# Altium footprint library swarm_crawler_pcb.PcbLib: 39 footprints (part 2 of 3)
Each footprint in its own frame and in the unit in brackets; x right, y up, seen from the top. Pads: shape width x height; smd on the part's side, far side on the other; paste and mask are expansions set on the pad; w line width, h text height; cw(c..) or ccw(c..) is an arc to the next point about the centre after c.
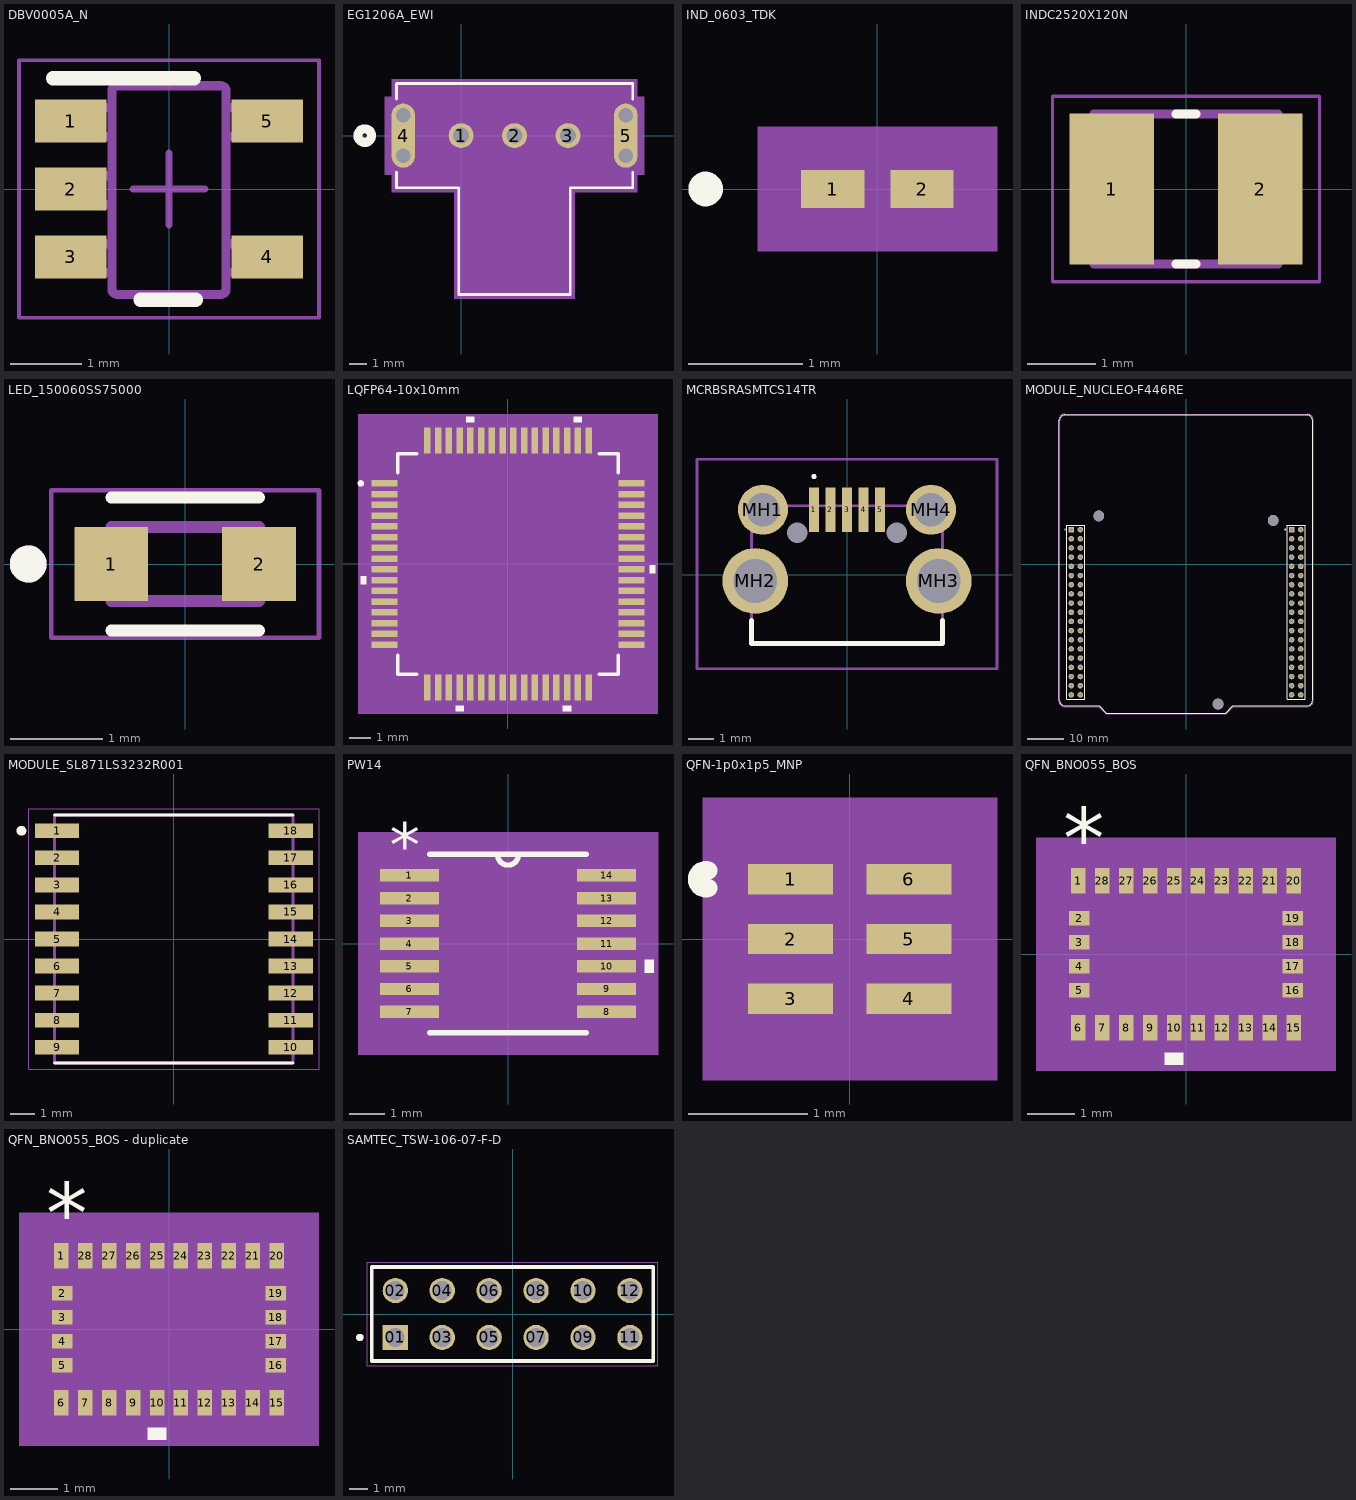
[diagram p1: the footprints below, top view; thin cyan lines are the x and y axes]

## DBV0005A_N [mm]
pads (5):
  rect 1x0.6 smd paste+0 mask+0.051: 1(-1.375,0.95) 2(-1.375,0) 3(-1.375,-0.95) 4(1.375,-0.95) 5(1.375,0.95)
Top Overlay:
  lines w0.2: -1.625,1.55 0.35,1.55 ; -0.4,-1.55 0.375,-1.55
Mechanical 13:
  lines w0.127: -0.801,1.371 cw(c-0.725,1.37) -0.725,1.446 ; -0.801,1.37 -0.801,-1.399 -0.801,-1.4 ccw(c-0.725,-1.399) -0.725,-1.475 ; -0.801,1.37 -0.801,1.371 ; -0.725,-1.475 -0.725,-1.475 ; -0.725,-1.475 0.723,-1.475 0.724,-1.475 ccw(c0.723,-1.399) 0.799,-1.4 0.799,-1.399 0.799,1.37 ; -0.725,1.446 0.723,1.446 0.724,1.446 cw(c0.723,1.37) 0.799,1.371 ; -0.725,1.446 -0.725,1.446 ; 0.799,1.37 0.799,1.371 ; -1.423,-1.167 -1.199,-1.167 -1.105,-1.167 -1.088,-1.167 -0.835,-1.167 -0.801,-1.167 -0.801,-0.767 -0.835,-0.767 -1.088,-0.767 -1.105,-0.767 -1.199,-0.767 -1.423,-0.767 -1.423,-1.167 ; -1.423,-0.215 -1.199,-0.215 -1.105,-0.215 -1.088,-0.215 -0.835,-0.215 -0.801,-0.215 -0.801,0.186 -0.835,0.186 -1.088,0.186 -1.105,0.186 -1.199,0.186 -1.423,0.186 -1.423,-0.215 ; -1.423,0.738 -1.199,0.738 -1.105,0.738 -1.088,0.738 -0.835,0.738 -0.801,0.738 -0.801,1.138 -0.835,1.138 -1.088,1.138 -1.105,1.138 -1.199,1.138 -1.423,1.138 -1.423,0.738 ; 0.799,-1.167 0.799,-0.767 0.834,-0.767 1.087,-0.767 1.103,-0.767 1.198,-0.767 1.422,-0.767 1.422,-1.167 1.198,-1.167 1.103,-1.167 1.087,-1.167 0.834,-1.167 0.799,-1.167 ; 0.799,0.738 0.799,1.138 0.834,1.138 1.087,1.138 1.103,1.138 1.198,1.138 1.422,1.138 1.422,0.738 1.198,0.738 1.103,0.738 1.087,0.738 0.834,0.738 0.799,0.738
  text ".Designator" at -0.885,0.95 h1.27
Mechanical 15:
  lines w0.05: -2.1,-1.8 2.1,-1.8 2.1,1.8 -2.1,1.8 -2.1,-1.8
  lines w0.1: -0.5,0 0.5,0 ; 0,-0.5 0,0.5
3D body: height 0.25, standoff 0, extent 0,0 0.254,0.254

## EG1206A_EWI [mil]
pads (9):
  round 55 hole 35 mask+0: 1(0,0) 2(118.11,0) 3(236.22,0)
  oval 52x142 smd: 4(-127.95,0) 5(364.17,0)
  round 32 hole 32 unplated: S_1_H1(-127.95,45) S_1_H2(-127.95,-45) S_2_H1(364.17,45) S_2_H2(364.17,-45)
Top Overlay:
  circle w20: c-212.89,0 r15
  lines w6: -142.89,-81.13 -142.89,-115 -5.1,-115 -5.1,-351 241.32,-351 241.32,-115 379.11,-115 379.11,-81.13 ; -142.89,81.13 -142.89,115 379.11,115 379.11,81.13
Bottom Overlay:
  circle w20: c-212.89,0 r15
Mechanical 5:
  region: -168.95,-86 -152.89,-86 -152.89,-125 -15.1,-125 -15.1,-361 251.32,-361 251.32,-125 389.11,-125 389.11,-86 405.17,-86 405.17,86 389.11,86 389.11,125 -152.89,125 -152.89,86 -168.95,86
Mechanical 13:
  circle w20: c0,75 r15
  lines w1: -0.1,-110 -0.1,-346 137.9,-346 137.9,-110 ; -137.89,-110 -137.89,110 374.11,110 374.11,-110 -137.89,-110
Mechanical 15:
  region: 246.32,-356 246.32,-120 384.11,-120 384.11,-81 400.17,-81 400.17,81 384.11,81 384.11,120 -147.89,120 -147.89,81 -163.95,81 -163.95,-81 -147.89,-81 -147.89,-120 -10.1,-120 -10.1,-356
  lines w6: -163.95,-81 -147.89,-81 -147.89,-120 -10.1,-120 -10.1,-356 246.32,-356 246.32,-120 384.11,-120 384.11,-81 400.17,-81 400.17,81 384.11,81 384.11,120 -147.89,120 -147.89,81 -163.95,81 -163.95,-81
Multi-Layer:
  lines w32: -127.95,-45 -127.95,45 ; 364.17,-45 364.17,45
3D body: height 10, standoff 0, extent 0,0 10,10

## IND_0603_TDK [mm]
pads (2):
  rect 0.556x0.33 smd paste+0 mask+0: 1(-0.393,0) 2(0.393,0)
Top Overlay:
  circle w0.152: c-1.509,0 r0.076
Mechanical 5:
  region: 1.052,-0.546 -1.052,-0.546 -1.052,0.546 1.052,0.546
Mechanical 13:
  circle w0: c-0.266,0 r0.076
  lines w0.025: -0.315,-0.165 -0.315,0.165 ; -0.315,-0.165 0.315,-0.165 ; -0.315,-0.165 -0.115,-0.165 -0.115,0.165 -0.315,0.165 ; -0.315,-0.165 -0.315,0.165 ; -0.315,0.165 0.315,0.165 ; 0.315,-0.165 0.315,0.165 ; 0.315,-0.165 0.315,0.165 ; 0.315,-0.165 0.115,-0.165 0.115,0.165 0.315,0.165
Mechanical 15:
  region: 0.925,-0.419 -0.925,-0.419 -0.925,0.419 0.925,0.419
  lines w0.152: -0.925,-0.419 0.925,-0.419 0.925,0.419 -0.925,0.419 -0.925,-0.419
3D body "IND_0603_TDK.step": height 0.33, standoff 0, extent -0.315,-0.165 0.315,0.165

## INDC2520X120N [mm]
pads (2):
  rect 1.24x2.22 smd: 1(-1.09,0) 2(1.09,0)
Top Overlay:
  lines w0.127: -0.15,-1.1 0.15,-1.1 ; -0.15,1.1 0.15,1.1
Mechanical 13:
  lines w0.127: -1.35,-1.1 1.35,-1.1 1.35,1.1 -1.35,1.1 -1.35,-1.1
Mechanical 15:
  lines w0.05: -1.958,-1.358 1.958,-1.358 1.958,1.358 -1.958,1.358 -1.958,-1.358

## LED_150060SS75000 [mm]
pads (2):
  rect 0.8x0.8 smd: 1(-0.8,0) 2(0.8,0)
Top Overlay:
  circle w0.2: c-1.7,0 r0.1
  lines w0.127: -0.8,-0.72 0.8,-0.72 ; -0.8,0.72 0.8,0.72
Mechanical 13:
  circle w0.2: c-1.7,0 r0.1
  lines w0.127: -0.8,-0.4 -0.8,0.4 0.8,0.4 0.8,-0.4 -0.8,-0.4
Mechanical 15:
  lines w0.05: -1.45,-0.8 1.45,-0.8 1.45,0.8 -1.45,0.8 -1.45,-0.8

## LQFP64-10x10mm [mil]
pads (64):
  rect 47x12 smd paste+0 mask+0: 1(-226.38,147.64) 2(-226.38,127.95) 3(-226.38,108.27) 4(-226.38,88.58) 5(-226.38,68.9) 6(-226.38,49.21) 7(-226.38,29.53) 8(-226.38,9.84) 9(-226.38,-9.84) 10(-226.38,-29.53) 11(-226.38,-49.21) 12(-226.38,-68.9) 13(-226.38,-88.58) 14(-226.38,-108.27) 15(-226.38,-127.95) 16(-226.38,-147.64) 33(226.38,-147.64) 34(226.38,-127.95) 35(226.38,-108.27) 36(226.38,-88.58) 37(226.38,-68.9) 38(226.38,-49.21) 39(226.38,-29.53) 40(226.38,-9.84) 41(226.38,9.84) 42(226.38,29.53) 43(226.38,49.21) 44(226.38,68.9) 45(226.38,88.58) 46(226.38,108.27) 47(226.38,127.95) 48(226.38,147.64)
  rect 12x47 smd paste+0 mask+0: 17(-147.64,-226.38) 18(-127.95,-226.38) 19(-108.27,-226.38) 20(-88.58,-226.38) 21(-68.9,-226.38) 22(-49.21,-226.38) 23(-29.53,-226.38) 24(-9.84,-226.38) 25(9.84,-226.38) 26(29.53,-226.38) 27(49.21,-226.38) 28(68.9,-226.38) 29(88.58,-226.38) 30(108.27,-226.38) 31(127.95,-226.38) 32(147.64,-226.38) 49(147.64,226.38) 50(127.95,226.38) 51(108.27,226.38) 52(88.58,226.38) 53(68.9,226.38) 54(49.21,226.38) 55(29.53,226.38) 56(9.84,226.38) 57(-9.84,226.38) 58(-29.53,226.38) 59(-49.21,226.38) 60(-68.9,226.38) 61(-88.58,226.38) 62(-108.27,226.38) 63(-127.95,226.38) 64(-147.64,226.38)
Top Overlay:
  circle w6: c-269.72,147.64 r3
  region: -259.88,-22.03 -269.88,-22.03 -269.88,-37.03 -259.88,-37.03
  region: -81.08,-259.88 -96.08,-259.88 -96.08,-269.88 -81.08,-269.88
  region: 115.77,-259.88 100.77,-259.88 100.77,-269.88 115.77,-269.88
  region: 259.88,-2.34 269.88,-2.34 269.88,-17.34 259.88,-17.34
  region: 135.45,259.88 120.45,259.88 120.45,269.88 135.45,269.88
  region: -61.4,259.88 -76.4,259.88 -76.4,269.88 -61.4,269.88
  lines w6: -202,-166.71 -202,-202 -166.71,-202 ; -202,166.71 -202,202 -166.71,202 ; 166.71,-202 202,-202 202,-166.71 ; 166.71,202 202,202 202,166.71
Mechanical 5:
  region: 274.88,-274.88 -274.88,-274.88 -274.88,274.88 274.88,274.88
Mechanical 13:
  circle w0: c-177.88,147.64 r3
  lines w1: -197,147 -147,197 ; -197,-197 197,-197 197,197 -197,197 -197,-197
Mechanical 15:
  region: -167.64,-207 -207,-207 -207,-167.64 -269.88,-167.64 -269.88,167.64 -207,167.64 -207,207 -167.64,207 -167.64,269.88 167.64,269.88 167.64,207 207,207 207,167.64 269.88,167.64 269.88,-167.64 207,-167.64 207,-207 167.64,-207 167.64,-269.88 -167.64,-269.88
  lines w6: -269.88,-167.64 -207,-167.64 -207,-207 -167.64,-207 -167.64,-269.88 167.64,-269.88 167.64,-207 207,-207 207,-167.64 269.88,-167.64 269.88,167.64 207,167.64 207,207 167.64,207 167.64,269.88 -167.64,269.88 -167.64,207 -207,207 -207,167.64 -269.88,167.64 -269.88,-167.64
3D body "LQFP64-10x10mm.step": height 63.11, standoff 0, extent -236.1,-236.1 236.1,236.1

## MCRBSRASMTCS14TR [mm]
pads (11):
  rect 0.4x1.75 smd: 1(-1.3,2.55) 2(-0.65,2.55) 3(0,2.55) 4(0.65,2.55) 5(1.3,2.55)
  round 1.965 hole 1.31: MH1(-3.3,2.55) MH4(3.3,2.55)
  round 2.58 hole 1.72: MH2(-3.6,-0.25) MH3(3.6,-0.25)
  round 0.4 hole 0.8 unplated: MH5(-1.95,1.65) MH6(1.95,1.65)
Top Overlay:
  lines w0.1: -1.3,3.8 cw(c-1.3,3.85) -1.3,3.9 cw(c-1.3,3.85) -1.3,3.8
  lines w0.2: -3.75,-1.8 -3.75,-2.7 3.75,-2.7 3.75,-1.8
Mechanical 15:
  lines w0.1: -3.75,-2.7 3.75,-2.7 3.75,2.7 -3.75,2.7 -3.75,-2.7
Mechanical 20:
  lines w0.1: -5.89,-3.7 5.89,-3.7 5.89,4.533 -5.89,4.533 -5.89,-3.7
3D body "MCR-B-S-RA-SMT-CS14-T_R.stp": height 5.8, standoff -4.65, extent -10,-3.376 10,3.376

## MODULE_NUCLEO-F446RE [mm]
pads (79):
  rect 1.53x1.53 hole 1.02: CN7_1(-31.75,9.51) CN10_1(29.21,9.51)
  round 1.53 hole 1.02: CN7_2(-29.21,9.51) CN7_3(-31.75,6.97) CN7_4(-29.21,6.97) CN7_5(-31.75,4.43) CN7_6(-29.21,4.43) CN7_7(-31.75,1.89) CN7_8(-29.21,1.89) CN7_9(-31.75,-0.65) CN7_10(-29.21,-0.65) CN7_11(-31.75,-3.19) CN7_12(-29.21,-3.19) CN7_13(-31.75,-5.73) CN7_14(-29.21,-5.73) CN7_15(-31.75,-8.27) CN7_16(-29.21,-8.27) CN7_17(-31.75,-10.81) CN7_18(-29.21,-10.81) CN7_19(-31.75,-13.35) CN7_20(-29.21,-13.35) CN7_21(-31.75,-15.89) CN7_22(-29.21,-15.89) CN7_23(-31.75,-18.43) CN7_24(-29.21,-18.43) CN7_25(-31.75,-20.97) CN7_26(-29.21,-20.97) CN7_27(-31.75,-23.51) CN7_28(-29.21,-23.51) CN7_29(-31.75,-26.05) CN7_30(-29.21,-26.05) CN7_31(-31.75,-28.59) CN7_32(-29.21,-28.59) CN7_33(-31.75,-31.13) CN7_34(-29.21,-31.13) CN7_35(-31.75,-33.67) CN7_36(-29.21,-33.67) CN7_37(-31.75,-36.21) CN7_38(-29.21,-36.21) CN10_2(31.75,9.51) CN10_3(29.21,6.97) CN10_4(31.75,6.97) CN10_5(29.21,4.43) CN10_6(31.75,4.43) CN10_7(29.21,1.89) CN10_8(31.75,1.89) CN10_9(29.21,-0.65) CN10_10(31.75,-0.65) CN10_11(29.21,-3.19) CN10_12(31.75,-3.19) CN10_13(29.21,-5.73) CN10_14(31.75,-5.73) CN10_15(29.21,-8.27) CN10_16(31.75,-8.27) CN10_17(29.21,-10.81) CN10_18(31.75,-10.81) CN10_19(29.21,-13.35) CN10_20(31.75,-13.35) CN10_21(29.21,-15.89) CN10_22(31.75,-15.89) CN10_23(29.21,-18.43) CN10_24(31.75,-18.43) CN10_25(29.21,-20.97) CN10_26(31.75,-20.97) CN10_27(29.21,-23.51) CN10_28(31.75,-23.51) CN10_29(29.21,-26.05) CN10_30(31.75,-26.05) CN10_31(29.21,-28.59) CN10_32(31.75,-28.59) CN10_33(29.21,-31.13) CN10_34(31.75,-31.13) CN10_35(29.21,-33.67) CN10_36(31.75,-33.67) CN10_37(29.21,-36.21) CN10_38(31.75,-36.21)
  round 3 hole 3 unplated: ""(-24.13,13.32) ""(8.89,-38.75) ""(24.13,12.05)
Top Overlay:
  circle w0.2: c-33.5,9.51 r0.1
  circle w0.2: c27.46,9.51 r0.1
  lines w0.127: -35,-37.75 ccw(c-33.5,-37.75) -33.5,-39.25 -24,-39.25 -22,-41.25 11,-41.25 13,-39.25 33.5,-39.25 ccw(c33.5,-37.75) 35,-37.75 35,39.75 ccw(c33.5,39.75) 33.5,41.25 -33.5,41.25 ccw(c-33.5,39.75) -35,39.75 -35,-37.75 ; -32.98,-37.48 -32.98,10.78 -27.98,10.78 -27.98,-37.48 -32.98,-37.48 ; 27.98,-37.48 27.98,10.78 32.98,10.78 32.98,-37.48 27.98,-37.48
Mechanical 15:
  lines w0.05: -35.25,-37.75 ccw(c-33.5,-37.75) -33.5,-39.5 -24.125,-39.5 -22.125,-41.5 11.125,-41.5 13.125,-39.5 33.5,-39.5 ccw(c33.5,-37.75) 35.25,-37.75 35.25,39.75 ccw(c33.5,39.75) 33.5,41.5 -33.5,41.5 ccw(c-33.5,39.75) -35.25,39.75 -35.25,-37.75

## MODULE_SL871LS3232R001 [mm]
pads (18):
  rect 1.8x0.6 smd: 1(-4.75,4.4) 2(-4.75,3.3) 3(-4.75,2.2) 4(-4.75,1.1) 5(-4.75,0) 6(-4.75,-1.1) 7(-4.75,-2.2) 8(-4.75,-3.3) 9(-4.75,-4.4) 10(4.75,-4.4) 11(4.75,-3.3) 12(4.75,-2.2) 13(4.75,-1.1) 14(4.75,0) 15(4.75,1.1) 16(4.75,2.2) 17(4.75,3.3) 18(4.75,4.4)
Top Overlay:
  circle w0.2: c-6.2,4.4 r0.1
  lines w0.127: -4.85,-5.05 4.85,-5.05 ; -4.85,5.05 4.85,5.05
Mechanical 13:
  lines w0.127: -4.85,-5.05 4.85,-5.05 4.85,5.05 -4.85,5.05 -4.85,-5.05
Mechanical 15:
  lines w0.05: -5.9,-5.3 5.9,-5.3 5.9,5.3 -5.9,5.3 -5.9,-5.3

## PCBComponent_1 [mil]

## PCBComponent_1 - duplicate [mil]

## PW14 [mil]
pads (14):
  rect 66x14 smd: 1(-111,76.77) 2(-111,51.18) 3(-111,25.59) 4(-111,0) 5(-111,-25.59) 6(-111,-51.18) 7(-111,-76.77) 8(111,-76.77) 9(111,-51.18) 10(111,-25.59) 11(111,0) 12(111,25.59) 13(111,51.18) 14(111,76.77)
Top Overlay:
  region: 154,-18.09 164,-18.09 164,-33.09 154,-33.09
  lines w6: -88.5,-100.5 88.5,-100.5 ; -88.5,100.5 88.5,100.5 ; -12,100.5 ccw(c0,100.5) 12,100.5
  text "*" at -133.5,85.77 h50
Mechanical 5:
  region: 169,-125.5 -169,-125.5 -169,125.5 169,125.5
Mechanical 13:
  lines w0: -12,100.5 ccw(c0,100.5) 12,100.5
  lines w1: -130,-82.77 -130,-70.77 -88.5,-70.77 -88.5,-82.77 -130,-82.77 ; -130,-57.18 -130,-45.18 -88.5,-45.18 -88.5,-57.18 -130,-57.18 ; -130,-31.59 -130,-19.59 -88.5,-19.59 -88.5,-31.59 -130,-31.59 ; -130,-6 -130,6 -88.5,6 -88.5,-6 -130,-6 ; -130,19.59 -130,31.59 -88.5,31.59 -88.5,19.59 -130,19.59 ; -130,45.18 -130,57.18 -88.5,57.18 -88.5,45.18 -130,45.18 ; -130,70.77 -130,82.77 -88.5,82.77 -88.5,70.77 -130,70.77 ; -88.5,-100.5 88.5,-100.5 88.5,100.5 -88.5,100.5 -88.5,-100.5 ; 88.5,-82.77 88.5,-70.77 130,-70.77 130,-82.77 88.5,-82.77 ; 88.5,-57.18 88.5,-45.18 130,-45.18 130,-57.18 88.5,-57.18 ; 88.5,-31.59 88.5,-19.59 130,-19.59 130,-31.59 88.5,-31.59 ; 88.5,-6 88.5,6 130,6 130,-6 88.5,-6 ; 88.5,19.59 88.5,31.59 130,31.59 130,19.59 88.5,19.59 ; 88.5,45.18 88.5,57.18 130,57.18 130,45.18 88.5,45.18 ; 88.5,70.77 88.5,82.77 130,82.77 130,70.77 88.5,70.77
  text "*" at -133.5,85.77 h50
Mechanical 15:
  region: 154,-110.5 -154,-110.5 -154,110.5 154,110.5
  lines w6: -154,-110.5 -154,110.5 154,110.5 154,-110.5 -154,-110.5
3D body "PW14.step": height 47.09, standoff 0, extent -130,-100.51 130,100.51

## QFN-1p0x1p5_MNP [mil]
pads (6):
  rect 28x10 smd paste-5 mask+0: 1(-19.5,19.68) 2(-19.5,0) 3(-19.5,-19.68) 4(19.5,-19.68) 5(19.5,0) 6(19.5,19.68)
Top Overlay:
  lines w6: -46.6,16.78 cw(c-47.34,19.68) -46.6,22.59
Mechanical 5:
  region: 48.5,-46.5 -48.5,-46.5 -48.5,46.5 48.5,46.5
Mechanical 13:
  lines w0: -12,31.5 ccw(c0,31.5) 12,31.5
  lines w1: -21.5,-31.5 -21.5,31.5 21.5,31.5 21.5,-31.5 -21.5,-31.5
Mechanical 15:
  region: -31.5,-34.69 -43.5,-34.69 -43.5,34.69 -31.5,34.69 -31.5,41.5 31.5,41.5 31.5,34.69 43.5,34.69 43.5,-34.69 31.5,-34.69 31.5,-41.5 -31.5,-41.5
  lines w6: -43.5,-34.69 -31.5,-34.69 -31.5,-41.5 31.5,-41.5 31.5,-34.69 43.5,-34.69 43.5,34.69 31.5,34.69 31.5,41.5 -31.5,41.5 -31.5,34.69 -43.5,34.69 -43.5,-34.69
3D body "QFN-1p0x1p5_MNP.step": height 37.09, standoff 0, extent -21.5,-31.5 21.5,31.5

## QFN_BNO055_BOS [mil]
pads (28):
  rect 12x21 smd paste+0 mask+0: 1(-88.58,60.5) 6(-88.58,-60.5) 7(-68.9,-60.5) 8(-49.21,-60.5) 9(-29.53,-60.5) 10(-9.84,-60.5) 11(9.84,-60.5) 12(29.53,-60.5) 13(49.21,-60.5) 14(68.9,-60.5) 15(88.58,-60.5) 20(88.58,60.5) 21(68.9,60.5) 22(49.21,60.5) 23(29.53,60.5) 24(9.84,60.5) 25(-9.84,60.5) 26(-29.53,60.5) 27(-49.21,60.5) 28(-68.9,60.5)
  rect 17x12 smd: 2(-88,29.53) 3(-88,9.84) 4(-88,-9.84) 5(-88,-29.53) 16(88,-29.53) 17(88,-9.84) 18(88,9.84) 19(88,29.53)
Top Overlay:
  region: -2.34,-81 -17.34,-81 -17.34,-91 -2.34,-91
  text "*" at -101.08,71 h50
Mechanical 5:
  region: 123.5,-96 -123.5,-96 -123.5,96 123.5,96
Mechanical 13:
  lines w1: -102.5,25 -52.5,75 ; -102.5,-75 102.5,-75 102.5,75 -102.5,75 -102.5,-75 ; -102.5,-35.53 -102.5,-23.53 -96.5,-23.53 -96.5,-35.53 -102.5,-35.53 ; -102.5,-15.84 -102.5,-3.84 -96.5,-3.84 -96.5,-15.84 -102.5,-15.84 ; -102.5,3.84 -102.5,15.84 -96.5,15.84 -96.5,3.84 -102.5,3.84 ; -102.5,23.53 -102.5,35.53 -96.5,35.53 -96.5,23.53 -102.5,23.53 ; -94.58,-75 -82.58,-75 -82.58,-71 -94.58,-71 -94.58,-75 ; -94.58,71 -82.58,71 -82.58,75 -94.58,75 -94.58,71 ; -74.9,-75 -62.9,-75 -62.9,-71 -74.9,-71 -74.9,-75 ; -74.9,71 -62.9,71 -62.9,75 -74.9,75 -74.9,71 ; -55.21,-75 -43.21,-75 -43.21,-71 -55.21,-71 -55.21,-75 ; -55.21,71 -43.21,71 -43.21,75 -55.21,75 -55.21,71 ; -35.53,-75 -23.53,-75 -23.53,-71 -35.53,-71 -35.53,-75 ; -35.53,71 -23.53,71 -23.53,75 -35.53,75 -35.53,71 ; -15.84,-75 -3.84,-75 -3.84,-71 -15.84,-71 -15.84,-75 ; -15.84,71 -3.84,71 -3.84,75 -15.84,75 -15.84,71 ; 3.84,-75 15.84,-75 15.84,-71 3.84,-71 3.84,-75 ; 3.84,71 15.84,71 15.84,75 3.84,75 3.84,71 ; 23.53,-75 35.53,-75 35.53,-71 23.53,-71 23.53,-75 ; 23.53,71 35.53,71 35.53,75 23.53,75 23.53,71 ; 43.21,-75 55.21,-75 55.21,-71 43.21,-71 43.21,-75 ; 43.21,71 55.21,71 55.21,75 43.21,75 43.21,71 ; 62.9,-75 74.9,-75 74.9,-71 62.9,-71 62.9,-75 ; 62.9,71 74.9,71 74.9,75 62.9,75 62.9,71 ; 82.58,-75 94.58,-75 94.58,-71 82.58,-71 82.58,-75 ; 82.58,71 94.58,71 94.58,75 82.58,75 82.58,71 ; 96.5,-35.53 102.5,-35.53 102.5,-23.53 96.5,-23.53 96.5,-35.53 ; 96.5,-15.84 102.5,-15.84 102.5,-3.84 96.5,-3.84 96.5,-15.84 ; 96.5,3.84 102.5,3.84 102.5,15.84 96.5,15.84 96.5,3.84 ; 96.5,23.53 102.5,23.53 102.5,35.53 96.5,35.53 96.5,23.53
  text "*" at -101.08,25 h50
Mechanical 15:
  region: -84.9,-85 -112.5,-85 -112.5,-45.53 -112.5,45.53 -112.5,85 -84.9,85 84.9,85 112.5,85 112.5,45.53 112.5,-45.53 112.5,-85 84.9,-85
  lines w6: -112.5,-85 -112.5,-45.53 -112.5,45.53 -112.5,85 -84.9,85 84.9,85 112.5,85 112.5,45.53 112.5,-45.53 112.5,-85 84.9,-85 -84.9,-85 -112.5,-85
3D body: height 10, standoff 0, extent 0,0 10,10

## QFN_BNO055_BOS - duplicate [mil]
pads (28):
  rect 12x21 smd paste+0 mask+0: 1(-88.58,60.5) 6(-88.58,-60.5) 7(-68.9,-60.5) 8(-49.21,-60.5) 9(-29.53,-60.5) 10(-9.84,-60.5) 11(9.84,-60.5) 12(29.53,-60.5) 13(49.21,-60.5) 14(68.9,-60.5) 15(88.58,-60.5) 20(88.58,60.5) 21(68.9,60.5) 22(49.21,60.5) 23(29.53,60.5) 24(9.84,60.5) 25(-9.84,60.5) 26(-29.53,60.5) 27(-49.21,60.5) 28(-68.9,60.5)
  rect 17x12 smd: 2(-88,29.53) 3(-88,9.84) 4(-88,-9.84) 5(-88,-29.53) 16(88,-29.53) 17(88,-9.84) 18(88,9.84) 19(88,29.53)
Top Overlay:
  region: -2.34,-81 -17.34,-81 -17.34,-91 -2.34,-91
  text "*" at -101.08,71 h50
Mechanical 5:
  region: 123.5,-96 -123.5,-96 -123.5,96 123.5,96
Mechanical 13:
  lines w1: -102.5,25 -52.5,75 ; -102.5,-75 102.5,-75 102.5,75 -102.5,75 -102.5,-75 ; -102.5,-35.53 -102.5,-23.53 -96.5,-23.53 -96.5,-35.53 -102.5,-35.53 ; -102.5,-15.84 -102.5,-3.84 -96.5,-3.84 -96.5,-15.84 -102.5,-15.84 ; -102.5,3.84 -102.5,15.84 -96.5,15.84 -96.5,3.84 -102.5,3.84 ; -102.5,23.53 -102.5,35.53 -96.5,35.53 -96.5,23.53 -102.5,23.53 ; -94.58,-75 -82.58,-75 -82.58,-71 -94.58,-71 -94.58,-75 ; -94.58,71 -82.58,71 -82.58,75 -94.58,75 -94.58,71 ; -74.9,-75 -62.9,-75 -62.9,-71 -74.9,-71 -74.9,-75 ; -74.9,71 -62.9,71 -62.9,75 -74.9,75 -74.9,71 ; -55.21,-75 -43.21,-75 -43.21,-71 -55.21,-71 -55.21,-75 ; -55.21,71 -43.21,71 -43.21,75 -55.21,75 -55.21,71 ; -35.53,-75 -23.53,-75 -23.53,-71 -35.53,-71 -35.53,-75 ; -35.53,71 -23.53,71 -23.53,75 -35.53,75 -35.53,71 ; -15.84,-75 -3.84,-75 -3.84,-71 -15.84,-71 -15.84,-75 ; -15.84,71 -3.84,71 -3.84,75 -15.84,75 -15.84,71 ; 3.84,-75 15.84,-75 15.84,-71 3.84,-71 3.84,-75 ; 3.84,71 15.84,71 15.84,75 3.84,75 3.84,71 ; 23.53,-75 35.53,-75 35.53,-71 23.53,-71 23.53,-75 ; 23.53,71 35.53,71 35.53,75 23.53,75 23.53,71 ; 43.21,-75 55.21,-75 55.21,-71 43.21,-71 43.21,-75 ; 43.21,71 55.21,71 55.21,75 43.21,75 43.21,71 ; 62.9,-75 74.9,-75 74.9,-71 62.9,-71 62.9,-75 ; 62.9,71 74.9,71 74.9,75 62.9,75 62.9,71 ; 82.58,-75 94.58,-75 94.58,-71 82.58,-71 82.58,-75 ; 82.58,71 94.58,71 94.58,75 82.58,75 82.58,71 ; 96.5,-35.53 102.5,-35.53 102.5,-23.53 96.5,-23.53 96.5,-35.53 ; 96.5,-15.84 102.5,-15.84 102.5,-3.84 96.5,-3.84 96.5,-15.84 ; 96.5,3.84 102.5,3.84 102.5,15.84 96.5,15.84 96.5,3.84 ; 96.5,23.53 102.5,23.53 102.5,35.53 96.5,35.53 96.5,23.53
  text "*" at -101.08,25 h50
Mechanical 15:
  region: -84.9,-85 -112.5,-85 -112.5,-45.53 -112.5,45.53 -112.5,85 -84.9,85 84.9,85 112.5,85 112.5,45.53 112.5,-45.53 112.5,-85 84.9,-85
  lines w6: -112.5,-85 -112.5,-45.53 -112.5,45.53 -112.5,85 -84.9,85 84.9,85 112.5,85 112.5,45.53 112.5,-45.53 112.5,-85 84.9,-85 -84.9,-85 -112.5,-85
3D body: height 10, standoff 0, extent 0,0 10,10

## SAMTEC_TSW-106-07-F-D [mm]
pads (12):
  rect 1.37x1.37 hole 1.02: 01(-6.35,-1.27)
  round 1.37 hole 1.02: 02(-6.35,1.27) 03(-3.81,-1.27) 04(-3.81,1.27) 05(-1.27,-1.27) 06(-1.27,1.27) 07(1.27,-1.27) 08(1.27,1.27) 09(3.81,-1.27) 10(3.81,1.27) 11(6.35,-1.27) 12(6.35,1.27)
Top Overlay:
  circle w0.2: c-8.27,-1.27 r0.1
  lines w0.2: -7.62,-2.54 -7.62,2.54 7.62,2.54 7.62,-2.54 -7.62,-2.54
Mechanical 13:
  circle w0.2: c-8.27,-1.27 r0.1
  lines w0.1: -7.62,-2.54 -7.62,2.54 ; -7.62,-2.54 7.62,-2.54 ; -7.62,-2.54 -7.62,2.54 ; -7.62,2.54 7.62,2.54 ; -7.62,2.54 7.62,2.54 ; 7.62,-2.54 7.62,2.54 ; 7.62,-2.54 7.62,2.54
Mechanical 15:
  lines w0.05: -7.87,-2.79 -7.87,2.79 7.87,2.79 7.87,-2.79 -7.87,-2.79